# Altium footprint library GOSTBOM.PcbLib: 10 footprints
Each footprint in its own frame and in the unit in brackets; x right, y up, seen from the top. Pads: shape width x height; smd on the part's side, far side on the other; paste and mask are expansions set on the pad; w line width, h text height; cw(c..) or ccw(c..) is an arc to the next point about the centre after c.
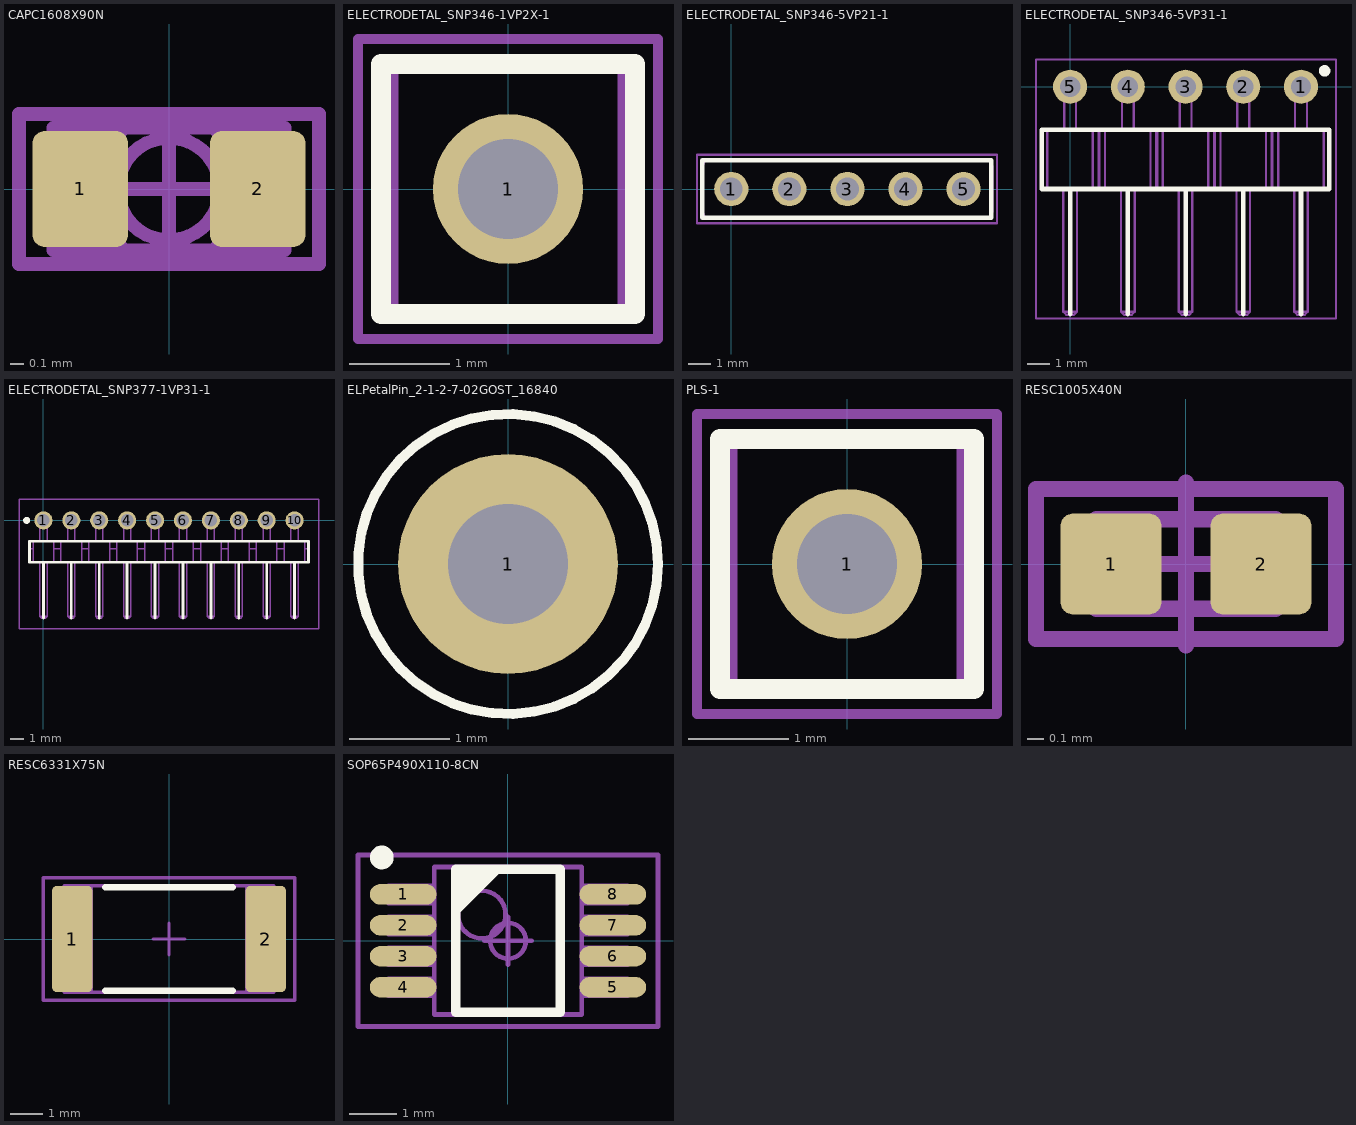
[diagram p0: the footprints below, top view; thin cyan lines are the x and y axes]

## CAPC1608X90N [mm] "Capacitor,non-polarized,Chip;1.60mm L X 0.8mm W X 0.90mm H"
height 0.9
pads (2):
  rrect25% 0.7x0.85 smd: 1(-0.65,0) 2(0.65,0)
Mechanical 13:
  lines w0.1: -0.35,-0.45 -0.35,-0.425 ; -0.35,0.425 -0.35,0.45 ; 0.35,-0.45 0.35,-0.425 ; 0.35,0.425 0.35,0.45 ; -0.85,-0.45 0.85,-0.45 0.85,0.45 -0.85,0.45 -0.85,-0.45
Mechanical 15:
  circle w0.1: c0,0 r0.375
  lines w0.1: -0.5,0 0.5,0 ; 0,-0.5 0,0.5 ; -1.1,-0.55 1.1,-0.55 1.1,0.55 -1.1,0.55 -1.1,-0.55
3D body "CAPC1608X90.STEP": height 0.9, standoff 0, extent -0.85,-0.45 0.85,0.45

## ELECTRODETAL_SNP346-1VP2X-1 [mm] "Вилка однорядная прямая; шаг 2,54; контактов - 1"
height 8.8
pads (1):
  round 1.5 hole 1: 1(0,0)
Top Overlay:
  lines w0.2: -1.27,-1.25 1.27,-1.25 1.27,1.25 -1.27,1.25 -1.27,-1.25
Mechanical 13:
  lines w0.1: -1.143,-1.25 1.143,-1.25 ; -1.143,-1.25 -1.143,1.25 ; -1.143,-1.25 -1.27,-0.996 -1.27,0.996 -1.143,1.25 ; -1.143,1.25 1.143,1.25 ; 1.143,-1.25 1.143,1.25 ; 1.143,-1.25 1.27,-0.996 1.27,0.996 1.143,1.25 ; -0.31,-0.31 0.31,-0.31 0.31,0.31 -0.31,0.31 -0.31,-0.31
Mechanical 15:
  lines w0.1: -0.5,0 0.5,0 ; 0,-0.5 0,0.5 ; -1.5,-1.5 -1.5,1.5 1.5,1.5 1.5,-1.5 -1.5,-1.5
3D body "ELECTRODETAL_SNP346-1RP2X-1.SLDPRT": height 8.8, standoff -3, extent -1.27,-1.27 1.27,1.27

## ELECTRODETAL_SNP346-5VP21-1 [mm] "Connector right-angle; pitch-2.54mm pitch; 5 pins."
height 2
pads (5):
  round 1.5 hole 1: 1(0,0) 2(2.54,0) 3(5.08,0) 4(7.62,0) 5(10.16,0)
Top Overlay:
  lines w0.2: -1.27,-1.25 11.375,-1.25 11.375,1.25 -1.27,1.25 -1.27,-1.25
Mechanical 13:
  lines w0.1: -1.27,-0.996 -1.27,0.996 -1.143,1.25 11.303,1.25 11.43,0.996 11.43,-0.996 11.303,-1.25 -1.143,-1.25 -1.27,-0.996 ; -0.31,-0.31 0.31,-0.31 0.31,0.31 -0.31,0.31 -0.31,-0.31 ; 2.23,-0.31 2.23,0.31 2.85,0.31 2.85,-0.31 2.23,-0.31 ; 4.77,-0.31 4.77,0.31 5.39,0.31 5.39,-0.31 4.77,-0.31 ; 7.31,-0.31 7.31,0.31 7.93,0.31 7.93,-0.31 7.31,-0.31 ; 9.85,-0.31 10.47,-0.31 10.47,0.31 9.85,0.31 9.85,-0.31
Mechanical 15:
  lines w0.1: -0.5,0 0.5,0 ; 0,-0.5 0,0.5 ; -1.5,-1.5 -1.5,1.5 11.625,1.5 11.625,-1.5 -1.5,-1.5
3D body "СНП346-5ВП21-1-В РЮМК.430420.011ТУ.STEP": height 8.8, standoff -3, extent -1.27,-1.27 11.43,1.27

## ELECTRODETAL_SNP346-5VP31-1 [mm] "Connector right-angle; pitch-2.54mm pitch; 5 pins."
height 2
pads (5):
  round 1.5 hole 0.9: 1(10.16,0) 2(7.62,0) 3(5.08,0) 4(2.54,0) 5(0,0)
Top Overlay:
  circle w0.25: c11.2,0.7 r0.125
  lines w0.2: 0,-10 0,-4.5 ; 2.54,-10 2.54,-4.5 ; 5.08,-10 5.08,-4.5 ; 7.62,-10 7.62,-4.5 ; 10.16,-10 10.16,-4.5 ; -1.25,-4.5 11.4,-4.5 11.4,-1.9 -1.25,-1.9 -1.25,-4.5
Mechanical 13:
  lines w0.1: -1.25,-1.9 -1.25,-4.5 11.4,-4.5 11.4,-2.02 ; -1.24,-1.9 11.41,-1.9 11.41,-4.5 ; -1,-4.5 -1,-1.9 ; -0.3,-4.5 -0.3,-9.9 ; -0.26,-1.9 -0.26,0.26 0.26,0.26 0.26,-1.9 ; 0.3,-4.5 0.3,-9.9 ; 1,-4.5 1,-1.9 ; 1.25,-4.5 1.25,-1.9 ; 1.29,-4.5 1.29,-1.9 ; 1.54,-4.5 1.54,-1.9 ; 2.24,-4.5 2.24,-9.9 ; 2.28,-1.9 2.28,0.26 2.8,0.26 2.8,-1.9 ; 2.84,-4.5 2.84,-9.9 ; 3.54,-4.5 3.54,-1.9 ; 3.79,-4.5 3.79,-1.9 ; 3.83,-4.5 3.83,-1.9 ; 4.08,-4.5 4.08,-1.9 ; 4.78,-4.5 4.78,-9.9 ; 4.82,-1.9 4.82,0.26 5.34,0.26 5.34,-1.9 ; 5.38,-4.5 5.38,-9.9 ; 6.08,-4.5 6.08,-1.9 ; 6.33,-4.5 6.33,-1.9 ; 6.37,-4.5 6.37,-1.9 ; 6.62,-4.5 6.62,-1.9 ; 7.32,-4.5 7.32,-9.9 ; 7.36,-1.9 7.36,0.26 7.88,0.26 7.88,-1.9 ; 7.92,-4.5 7.92,-9.9 ; 8.62,-4.5 8.62,-1.9 ; 8.87,-4.5 8.87,-1.9 ; 8.91,-4.5 8.91,-1.9 ; 9.16,-4.5 9.16,-1.9 ; 9.86,-4.5 9.86,-9.9 ; 9.9,-1.9 9.9,0.26 10.42,0.26 10.42,-1.9 ; 10.46,-4.5 10.46,-9.9 ; 11.16,-4.5 11.16,-1.9 ; -0.3,-9.9 -0.17,-10.03 0.17,-10.03 0.3,-9.9 ; -0.3,-9.9 0.3,-9.9 ; 2.24,-9.9 2.84,-9.9 ; 2.24,-9.9 2.37,-10.03 2.71,-10.03 2.84,-9.9 ; 4.78,-9.9 5.38,-9.9 ; 4.78,-9.9 4.91,-10.03 5.25,-10.03 5.38,-9.9 ; 7.32,-9.9 7.92,-9.9 ; 7.32,-9.9 7.45,-10.03 7.79,-10.03 7.92,-9.9 ; 9.86,-9.9 10.46,-9.9 ; 9.86,-9.9 9.99,-10.03 10.33,-10.03 10.46,-9.9
Mechanical 15:
  lines w0.1: -0.5,0 0.5,0 ; 0,-0.5 0,0.5 ; -1.5,-10.2 -1.5,1.2 11.7,1.2 11.7,-10.2 -1.5,-10.2
3D body "СНП346-5ВП31-1-В РЮМК.430420.011ТУ.STEP": height 2.5, standoff -3, extent -1.27,-10.5 11.43,0.31

## ELECTRODETAL_SNP377-1VP31-1 [mm] "Connector right-angle; 2.00mm pitch; 10 pins."
height 2
pads (10):
  round 1.3 hole 0.9: 1(0,0) 2(2,0) 3(4,0) 4(6,0) 5(8,0) 6(10,0) 7(12,0) 8(14,0) 9(16,0) 10(18,0)
Top Overlay:
  circle w0.25: c-1.2,0 r0.125
  lines w0.2: 0,-7 0,-3 ; 2,-7 2,-3 ; 4,-7 4,-3 ; 6,-7 6,-3 ; 8,-7 8,-3 ; 10,-7 10,-3 ; 12,-7 12,-3 ; 14,-7 14,-3 ; 16,-7 16,-3 ; 18,-7 18,-3 ; -1,-3 -1,-1.5 19,-1.5 19,-3 -1,-3
Mechanical 13:
  lines w0.1: -0.74,-3 -0.74,-1.5 0.74,-1.5 0.74,-3 ; -0.74,-2.02 -1,-2.02 -1,-3 19,-3 19,-2.02 18.74,-2.02 ; -0.26,-3 -0.26,-6.87 ; -0.26,-1.5 -0.26,0.26 0.26,0.26 0.26,-1.5 ; 0.26,-3 0.26,-6.87 ; 0.74,-2.02 1.26,-2.02 ; 1.26,-3 1.26,-1.5 2.74,-1.5 2.74,-3 ; 1.74,-3 1.74,-6.87 ; 1.74,-1.5 1.74,0.26 2.26,0.26 2.26,-1.5 ; 2.26,-3 2.26,-6.87 ; 2.74,-2.02 3.26,-2.02 ; 3.26,-3 3.26,-1.5 4.74,-1.5 4.74,-3 ; 3.74,-3 3.74,-6.87 ; 3.74,-1.5 3.74,0.26 4.26,0.26 4.26,-1.5 ; 4.26,-3 4.26,-6.87 ; 4.74,-2.02 5.26,-2.02 ; 5.26,-3 5.26,-1.5 6.74,-1.5 6.74,-3 ; 5.74,-3 5.74,-6.87 ; 5.74,-1.5 5.74,0.26 6.26,0.26 6.26,-1.5 ; 6.26,-3 6.26,-6.87 ; 6.74,-2.02 7.26,-2.02 ; 7.26,-3 7.26,-1.5 8.74,-1.5 8.74,-3 ; 7.74,-3 7.74,-6.87 ; 7.74,-1.5 7.74,0.26 8.26,0.26 8.26,-1.5 ; 8.26,-3 8.26,-6.87 ; 8.74,-2.02 9.26,-2.02 ; 9.26,-3 9.26,-1.5 10.74,-1.5 10.74,-3 ; 9.74,-3 9.74,-6.87 ; 9.74,-1.5 9.74,0.26 10.26,0.26 10.26,-1.5 ; 10.26,-3 10.26,-6.87 ; 10.74,-2.02 11.26,-2.02 ; 11.26,-3 11.26,-1.5 12.74,-1.5 12.74,-3 ; 11.74,-3 11.74,-6.87 ; 11.74,-1.5 11.74,0.26 12.26,0.26 12.26,-1.5 ; 12.26,-3 12.26,-6.87 ; 12.74,-2.02 13.26,-2.02 ; 13.26,-3 13.26,-1.5 14.74,-1.5 14.74,-3 ; 13.74,-3 13.74,-6.87 ; 13.74,-1.5 13.74,0.26 14.26,0.26 14.26,-1.5 ; 14.26,-3 14.26,-6.87 ; 14.74,-2.02 15.26,-2.02 ; 15.26,-3 15.26,-1.5 16.74,-1.5 16.74,-3 ; 15.74,-3 15.74,-6.87 ; 15.74,-1.5 15.74,0.26 16.26,0.26 16.26,-1.5 ; 16.26,-3 16.26,-6.87 ; 16.74,-2.02 17.26,-2.02 ; 17.26,-3 17.26,-1.5 18.74,-1.5 18.74,-3 ; 17.74,-3 17.74,-6.87 ; 17.74,-1.5 17.74,0.26 18.26,0.26 18.26,-1.5 ; 18.26,-3 18.26,-6.87 ; -0.26,-6.87 0.26,-6.87 ; -0.26,-6.87 -0.13,-7 0.13,-7 0.26,-6.87 ; 1.74,-6.87 1.87,-7 2.13,-7 2.26,-6.87 ; 1.74,-6.87 2.26,-6.87 ; 3.74,-6.87 4.26,-6.87 ; 3.74,-6.87 3.87,-7 4.13,-7 4.26,-6.87 ; 5.74,-6.87 6.26,-6.87 ; 5.74,-6.87 5.87,-7 6.13,-7 6.26,-6.87 ; 7.74,-6.87 7.87,-7 8.13,-7 8.26,-6.87 ; 7.74,-6.87 8.26,-6.87 ; 9.74,-6.87 9.87,-7 10.13,-7 10.26,-6.87 ; 9.74,-6.87 10.26,-6.87 ; 11.74,-6.87 12.26,-6.87 ; 11.74,-6.87 11.87,-7 12.13,-7 12.26,-6.87 ; 13.74,-6.87 14.26,-6.87 ; 13.74,-6.87 13.87,-7 14.13,-7 14.26,-6.87 ; 15.74,-6.87 15.87,-7 16.13,-7 16.26,-6.87 ; 15.74,-6.87 16.26,-6.87 ; 17.74,-6.87 18.26,-6.87 ; 17.74,-6.87 17.87,-7 18.13,-7 18.26,-6.87
Mechanical 15:
  lines w0.1: -0.5,0 0.5,0 ; 0,-0.5 0,0.5 ; -1.75,-7.75 19.75,-7.75 19.75,1.5 -1.75,1.5 -1.75,-7.75
3D body "ELECTRODETAL_SNP377-10VP31-1.SLDPRT": height 2, standoff -3, extent -1,-7 19,0.26

## ELPetalPin_2-1-2-7-02GOST_16840 [mm] "Лепесток 2-1-2-7-02 ГОСТ 16840-78"
height 7
pads (1):
  round 2.2 hole 1.2: 1(0,0)
Top Overlay:
  circle w0.1: c0,0 r1.5
Mechanical 13:
  circle w0.2: c0,0 r0.85
  circle w0.2: c0,0 r0.5
Mechanical 15:
  lines w0.1: -0.5,0 0.5,0 ; 0,-0.5 0,0.5
3D body "Лепесток 2-1-2-7-02 ГОСТ 16840-78.STEP": height 5, standoff -2, extent -0.87,-0.87 0.87,0.87

## PLS-1 [mm] "Вилка однорядная прямая; шаг 2,54; контактов - 1"
height 8.8
pads (1):
  round 1.5 hole 1: 1(0,0)
Top Overlay:
  lines w0.2: -1.27,-1.25 -1.27,1.25 1.27,1.25 1.27,-1.25 -1.27,-1.25
Mechanical 13:
  lines w0.1: -1.143,-1.25 -1.27,-0.996 -1.27,0.996 -1.143,1.25 ; -1.143,-1.25 -1.143,1.25 ; -1.143,-1.25 1.143,-1.25 ; -1.143,1.25 1.143,1.25 ; 1.143,-1.25 1.27,-0.996 1.27,0.996 1.143,1.25 ; 1.143,-1.25 1.143,1.25 ; -0.31,-0.31 -0.31,0.31 0.31,0.31 0.31,-0.31 -0.31,-0.31
Mechanical 15:
  lines w0.1: -0.5,0 0.5,0 ; 0,-0.5 0,0.5 ; -1.5,-1.5 1.5,-1.5 1.5,1.5 -1.5,1.5 -1.5,-1.5
3D body "ELECTRODETAL_SNP346-1RP2X-1.SLDPRT": height 8.8, standoff -3, extent -1.27,-1.27 1.27,1.27

## RESC1005X40N [mm] "Resistor,Chip;1.00mm L X 0.50mm W X 0.40mm H"
height 0.4
pads (2):
  rrect25% 0.62x0.62 smd: 1(-0.46,0) 2(0.46,0)
Mechanical 13:
  lines w0.1: -0.25,-0.275 -0.25,-0.25 ; -0.25,0.25 -0.25,0.275 ; 0.25,-0.275 0.25,-0.25 ; 0.25,0.25 0.25,0.275 ; 0.55,0.275 0.55,-0.275 -0.55,-0.275 -0.55,0.275 0.55,0.275 ; 0.55,0.275 0.55,0.275
Mechanical 15:
  lines w0.1: -0.5,0 0.5,0 ; 0,-0.5 0,0.5 ; -0.92,-0.46 -0.92,0.46 0.92,0.46 0.92,-0.46 -0.92,-0.46
3D body "RESC1005X40.STEP": height 0.4, standoff 0, extent -0.55,-0.275 0.55,0.275

## RESC6331X75N [mm] "Resistor,Chip;6.30mm L X 3.10mm W X 0.75mm H"
height 0.75
pads (2):
  rrect25% 1.25x3.3 smd: 1(-3,0) 2(3,0)
Top Overlay:
  lines w0.2: -1.975,-1.6 1.975,-1.6 ; -1.975,1.6 1.975,1.6
Mechanical 13:
  lines w0.1: -2.4,-1.65 -2.4,1.65 ; 2.4,-1.65 2.4,1.65 ; -3.25,-1.65 3.25,-1.65 3.25,1.65 -3.25,1.65 -3.25,-1.65
Mechanical 15:
  lines w0.1: -0.5,0 0.5,0 ; 0,-0.5 0,0.5 ; -3.9,-1.9 3.9,-1.9 3.9,1.9 -3.9,1.9 -3.9,-1.9
3D body "RESC6331X75.STEP": height 0.75, standoff 0, extent -3.25,-1.65 3.25,1.65

## SOP65P490X110-8CN [mm] "SOP,0.65mm pitch;8 pin,3.00mm W X 3.00mm L X 1.10mm H body"
height 1.1
pads (8):
  oval 1.4x0.43 smd: 1(-2.2,0.975) 2(-2.2,0.325) 3(-2.2,-0.325) 4(-2.2,-0.975) 5(2.2,-0.975) 6(2.2,-0.325) 7(2.2,0.325) 8(2.2,0.975)
Top Overlay:
  circle w0.25: c-2.65,1.75 r0.125
  region: -1.1,1.5 -0.1,1.5 -1.1,0.5
  lines w0.2: -1.1,-1.5 -1.1,1.5 1.1,1.5 1.1,-1.5 -1.1,-1.5
Mechanical 13:
  circle w0.1: c-0.55,0.55 r0.5
  lines w0.1: -1.55,-1.155 -2.515,-1.155 -2.515,-0.795 -1.55,-0.795 ; -1.55,-0.505 -2.515,-0.505 -2.515,-0.145 -1.55,-0.145 ; -1.55,0.145 -2.515,0.145 -2.515,0.505 -1.55,0.505 ; -1.55,0.795 -2.515,0.795 -2.515,1.155 -1.55,1.155 ; 1.55,-1.155 2.515,-1.155 2.515,-0.795 1.55,-0.795 ; 1.55,-0.505 2.515,-0.505 2.515,-0.145 1.55,-0.145 ; 1.55,0.145 2.515,0.145 2.515,0.505 1.55,0.505 ; 1.55,0.795 2.515,0.795 2.515,1.155 1.55,1.155 ; -1.55,-1.55 -1.55,1.55 1.55,1.55 1.55,-1.55 -1.55,-1.55
Mechanical 15:
  circle w0.1: c0,0 r0.375
  lines w0.1: -0.5,0 0.5,0 ; 0,-0.5 0,0.5 ; -3.15,-1.8 -3.15,1.8 3.15,1.8 3.15,-1.8 -3.15,-1.8
3D body "SOP65P490X110-8C.STEP": height 1.1, standoff 0, extent -2.515,-1.55 2.515,1.55